# EAGLE library part TPS61240 (library fmc)
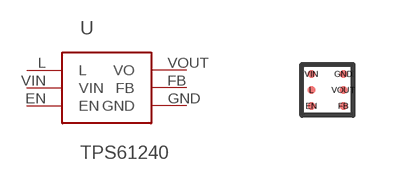
[diagram p4: symbol with the pads of DSBGA_6; footprint DSBGA_6]

Designator prefix -

## TPS61240  [DSBGA_6]
EN  EN
FB  FB
GND  GND
L  L
VIN  VIN
VOUT  VO

## Footprint DSBGA_6 (pad centres in mm)
smd 0.2 x 0.2: EN -0.4,-0.4; FB 0.4,-0.4; GND 0.4,0.4; L -0.4,0; VIN -0.4,0.4; VOUT 0.4,0